# Altium footprint library PcbLib1.PcbLib: 16 footprints
Each footprint in its own frame and in the unit in brackets; x right, y up, seen from the top. Pads: shape width x height; smd on the part's side, far side on the other; paste and mask are expansions set on the pad; w line width, h text height; cw(c..) or ccw(c..) is an arc to the next point about the centre after c.
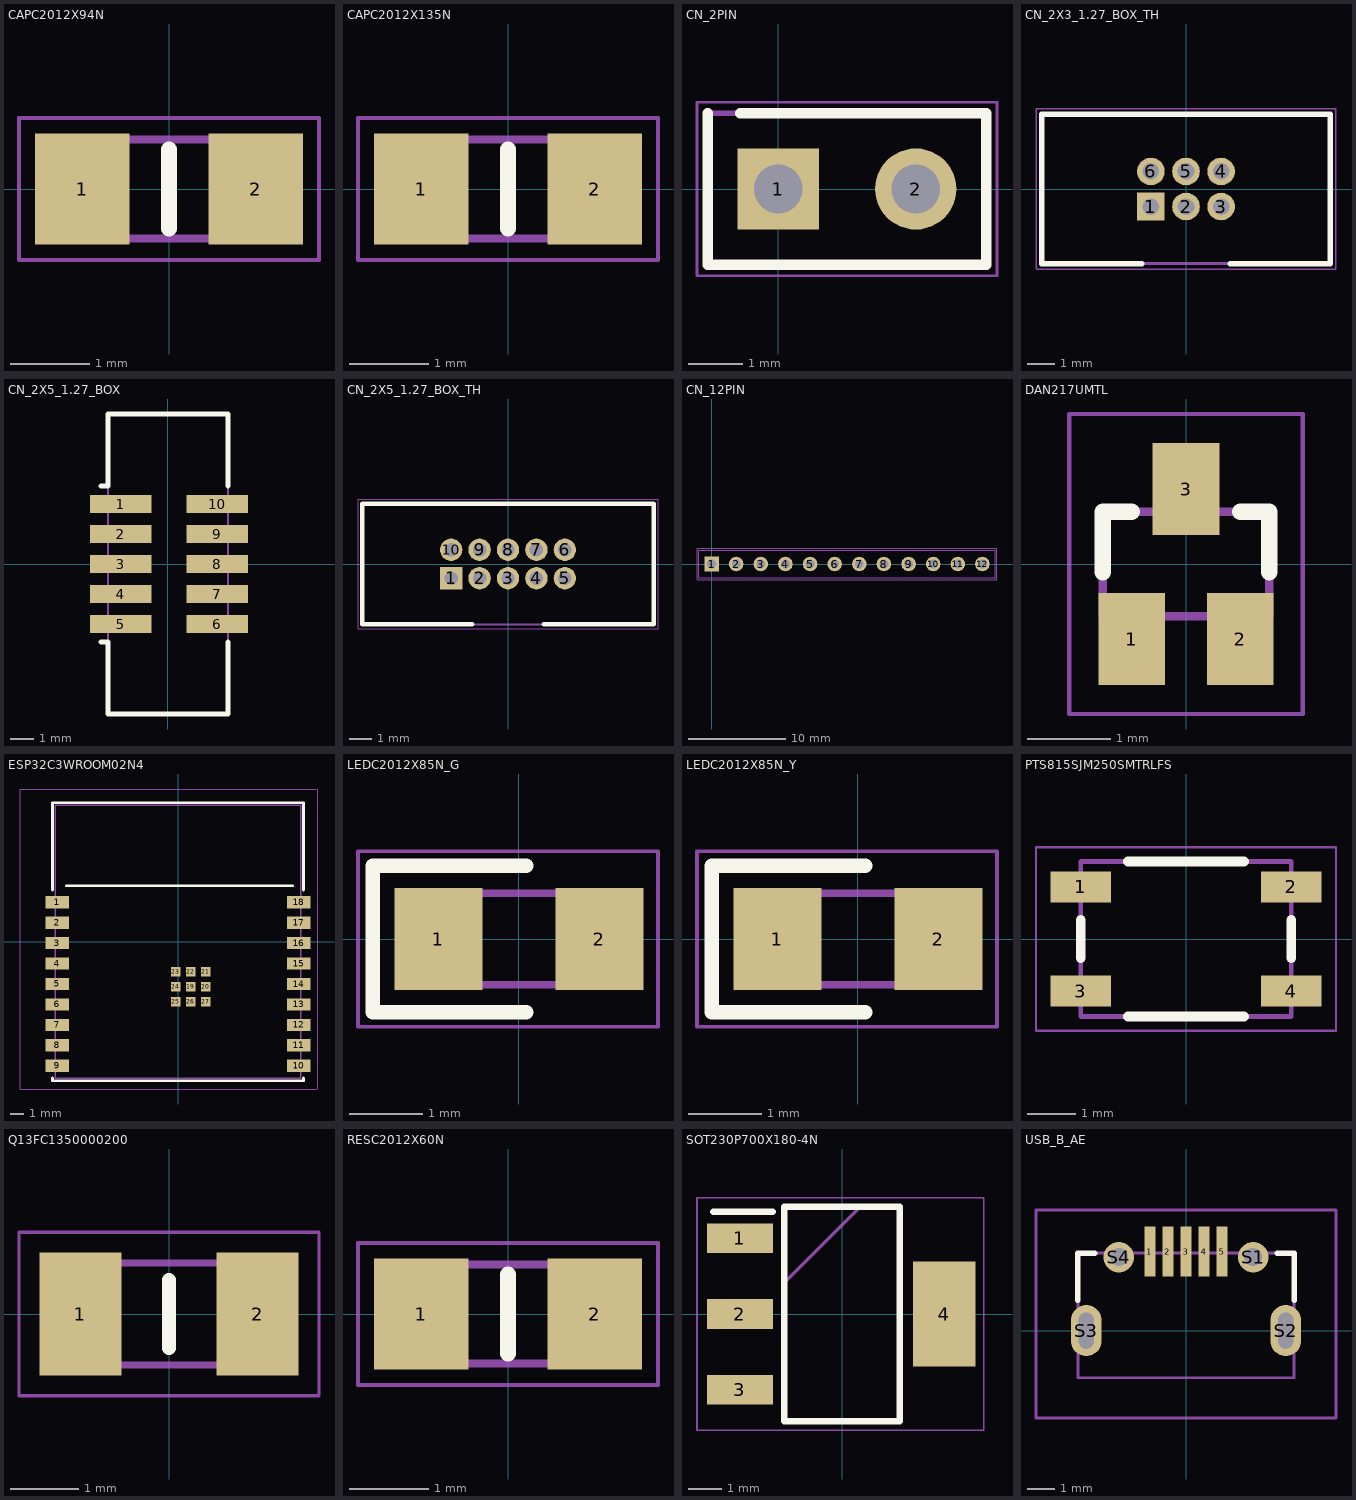
[diagram p0: the footprints below, top view; thin cyan lines are the x and y axes]

## CAPC2012X94N [mm] "Capacitor"
pads (2):
  rect 1.2x1.4 smd: 1(-1.1,0) 2(1.1,0)
Top Overlay:
  lines w0.2: 0,-0.5 0,0.5
Mechanical 13:
  lines w0.1: -1,-0.625 -1,0.625 1,0.625 1,-0.625 -1,-0.625
Mechanical 15:
  lines w0.05: -1.9,-0.9 1.9,-0.9 1.9,0.9 -1.9,0.9 -1.9,-0.9
3D body "08055A4R3CAT2A.stp": height 0.94, standoff 0, extent -1.005,-0.625 1.005,0.625

## CAPC2012X135N [mm] "Capacitor"
pads (2):
  rect 1.2x1.4 smd: 1(-1.1,0) 2(1.1,0)
Top Overlay:
  lines w0.2: 0,-0.5 0,0.5
Mechanical 13:
  lines w0.1: -1,-0.625 -1,0.625 1,0.625 1,-0.625 -1,-0.625
Mechanical 15:
  lines w0.05: -1.9,-0.9 1.9,-0.9 1.9,0.9 -1.9,0.9 -1.9,-0.9
3D body "885012107015.stp": height 1.35, standoff 0, extent -1,-0.625 1,0.625

## CN_2PIN [mm] "Connector"
pads (2):
  rect 1.5x1.5 hole 0.9: 1(0,0)
  round 1.5 hole 0.9: 2(2.54,0)
Top Overlay:
  lines w0.2: -1.3,1.4 -1.3,-1.4 3.84,-1.4 3.84,1.4 -0.7,1.4
Mechanical 13:
  lines w0.1: -1.3,-1.4 3.84,-1.4 3.84,1.4 -1.3,1.4 -1.3,-1.4
Mechanical 15:
  lines w0.05: -1.5,-1.6 -1.5,1.6 4.04,1.6 4.04,-1.6 -1.5,-1.6
3D body "pin_header_aw140-eg-g02d.SLDPRT": height 8.2, standoff -3, extent -1.17,-1.246 3.91,1.253

## CN_2X3_1.27_BOX_TH [mm] "Connector"
pads (6):
  rect 1x1 hole 0.6: 1(-1.27,-0.635)
  round 1 hole 0.6: 2(0,-0.635) 3(1.27,-0.635) 4(1.27,0.635) 5(0,0.635) 6(-1.27,0.635)
Top Overlay:
  lines w0.2: -1.6,-2.7 -5.23,-2.7 -5.23,-2.2 -5.23,2.7 5.23,2.7 5.23,-2.7 1.6,-2.7
Mechanical 13:
  lines w0.1: -5.23,-2.7 -5.23,2.7 5.23,2.7 5.23,-2.7 -5.23,-2.7
Mechanical 15:
  lines w0.05: -5.43,-2.9 5.43,-2.9 5.43,2.9 -5.43,2.9 -5.43,-2.9
3D body "IDC_Connector_SMD_2x3.step": height 4.9, standoff -0.2, extent -5.005,-2.9 5.005,2.9

## CN_2X5_1.27_BOX [mm] "Connector"
pads (10):
  rect 2.6x0.76 smd: 1(-2.005,2.54) 2(-2.005,1.27) 3(-2.005,0) 4(-2.005,-1.27) 5(-2.005,-2.54) 6(2.095,-2.54) 7(2.095,-1.27) 8(2.095,0) 9(2.095,1.27) 10(2.095,2.54)
Top Overlay:
  lines w0.2: -2.845,-3.302 -2.54,-3.302 -2.54,-6.35 2.54,-6.35 2.54,-3.302 ; -2.845,3.302 -2.54,3.302 -2.54,6.35 2.54,6.35 2.54,3.302
Mechanical 13:
  lines w0.1: -2.54,-6.35 -2.54,6.35 2.54,6.35 2.54,-6.35 -2.54,-6.35
3D body "IDC_Connector_SMD_2x5.step": height 5.1, standoff 0, extent -2.849,-6.275 2.951,6.275

## CN_2X5_1.27_BOX_TH [mm] "Connector"
pads (10):
  rect 1x1 hole 0.6: 1(-2.54,-0.635)
  round 1 hole 0.6: 2(-1.27,-0.635) 3(0,-0.635) 4(1.27,-0.635) 5(2.54,-0.635) 6(2.54,0.635) 7(1.27,0.635) 8(0,0.635) 9(-1.27,0.635) 10(-2.54,0.635)
Top Overlay:
  lines w0.2: -1.6,-2.7 -6.5,-2.7 -6.5,-2.2 -6.5,2.7 6.5,2.7 6.5,-2.7 1.6,-2.7
Mechanical 13:
  lines w0.1: -6.5,-2.7 -6.5,2.7 6.5,2.7 6.5,-2.7 -6.5,-2.7
Mechanical 15:
  lines w0.05: -6.7,-2.9 6.7,-2.9 6.7,2.9 -6.7,2.9 -6.7,-2.9
3D body "CONB127P-2R-10W_TH.STEP": height 5.4, standoff -2.1, extent -6.325,-2.65 6.325,2.55

## CN_12PIN [mm] "Connector"
pads (12):
  rect 1.5x1.5 hole 0.9: 1(0,0)
  round 1.5 hole 0.9: 2(2.54,0) 3(5.08,0) 4(7.62,0) 5(10.16,0) 6(12.7,0) 7(15.24,0) 8(17.78,0) 9(20.32,0) 10(22.86,0) 11(25.4,0) 12(27.94,0)
Mechanical 13:
  lines w0.1: -1.3,-1.4 -1.3,1.4 29.24,1.4 29.24,-1.4 -1.3,-1.4
Mechanical 15:
  lines w0.05: -1.5,-1.6 -1.5,1.6 29.44,1.6 29.44,-1.6 -1.5,-1.6
3D body "pin_header_aw140-eg-g12d.SLDPRT": height 2.59, standoff -8.61, extent -1.17,-1.253 29.31,1.246

## DAN217UMTL [mm]
pads (3):
  rect 0.8x1.1 smd: 1(-0.65,-0.9) 2(0.65,-0.9) 3(0,0.9)
Top Overlay:
  lines w0.2: -1,-0.1 -1,0.6 -1,0.625 -0.65,0.625 ; 0.65,0.625 1,0.625 1,-0.1
Mechanical 13:
  lines w0.1: -1,-0.625 -1,0.625 1,0.625 1,-0.625 -1,-0.625
Mechanical 15:
  lines w0.05: -1.4,-1.8 1.4,-1.8 1.4,1.8 -1.4,1.8 -1.4,-1.8
3D body "RB715UMTL.stp": height 1.1, standoff 0, extent -1,-1.17 1,1.17

## ESP32C3WROOM02N4 [mm] "Module"
pads (27):
  rect 1.7x0.9 smd: 1(-8.85,2.9) 2(-8.85,1.4) 3(-8.85,-0.1) 4(-8.85,-1.6) 5(-8.85,-3.1) 6(-8.85,-4.6) 7(-8.85,-6.1) 8(-8.85,-7.6) 9(-8.85,-9.1) 10(8.85,-9.1) 11(8.85,-7.6) 12(8.85,-6.1) 13(8.85,-4.6) 14(8.85,-3.1) 15(8.85,-1.6) 16(8.85,-0.1) 17(8.85,1.4) 18(8.85,2.9)
  rect 0.7x0.7 smd: 19(0.95,-3.3) 20(2.05,-3.3) 21(2.05,-2.2) 22(0.95,-2.2) 23(-0.15,-2.2) 24(-0.15,-3.3) 25(-0.15,-4.4) 26(0.95,-4.4) 27(2.05,-4.4)
Top Overlay:
  lines w0.2: -9.2,-10 -9.2,-10.2 9.2,-10.2 9.2,-10 ; -9.2,3.8 -9.2,10.2 9.2,10.2 9.2,3.8 ; -8.2,4.1 8.4,4.1
Mechanical 13:
  lines w0.1: -9,-10 9,-10 9,10 -9,10 -9,-10
Mechanical 15:
  lines w0.05: 10.14,-10.8 -11.56,-10.8 -11.56,11.2 10.14,11.2 ; 10.24,-10.8 10.24,11.2
3D body "ESP32-C3-WROOM-02-N4.stp": height 3.2, standoff 0, extent -9,-10 9,10

## LEDC2012X85N_G [mm] "LED Green"
pads (2):
  rect 1.2x1.4 smd: 1(-1.1,0) 2(1.1,0)
Top Overlay:
  lines w0.2: 0.1,-1 -2,-1 -2,1 0.1,1
Mechanical 13:
  lines w0.1: -1,0.208 -0.583,0.625 ; -1,-0.625 1,-0.625 1,0.625 -1,0.625 -1,-0.625
Mechanical 15:
  lines w0.05: -2.2,-1.2 1.9,-1.2 1.9,1.2 -2.2,1.2 -2.2,-1.2
3D body "User Library-LED-0805-G.sldprt": height 1.1, standoff 0, extent -1,-0.625 1,0.625

## LEDC2012X85N_Y [mm] "LED Yellow"
pads (2):
  rect 1.2x1.4 smd: 1(-1.1,0) 2(1.1,0)
Top Overlay:
  lines w0.2: 0.1,-1 -2,-1 -2,1 0.1,1
Mechanical 13:
  lines w0.1: -1,0.208 -0.583,0.625 ; -1,-0.625 1,-0.625 1,0.625 -1,0.625 -1,-0.625
Mechanical 15:
  lines w0.05: -2.2,-1.2 1.9,-1.2 1.9,1.2 -2.2,1.2 -2.2,-1.2
3D body "User Library-LED-0805-Y.sldprt": height 1.1, standoff 0, extent -1,-0.625 1,0.625

## PTS815SJM250SMTRLFS [mm] "Switch"
pads (4):
  rect 1.25x0.65 smd: 1(-2.175,1.075) 2(2.175,1.075) 3(-2.175,-1.075) 4(2.175,-1.075)
Top Overlay:
  lines w0.2: -2.175,-0.4 -2.175,0.4 ; -1.2,-1.6 1.2,-1.6 ; -1.2,1.6 1.2,1.6 ; 2.175,-0.4 2.175,0.4
Mechanical 13:
  lines w0.1: -2.175,-1.6 2.175,-1.6 2.175,1.6 -2.175,1.6 -2.175,-1.6
Mechanical 15:
  lines w0.05: -3.1,-1.9 3.1,-1.9 3.1,1.9 -3.1,1.9 -3.1,-1.9
3D body "PTS815_SJM_250_SMTR_LFS.stp": height 2.64, standoff 0.04, extent -2.3,-1.6 2.3,1.6

## Q13FC1350000200 [mm] "Crystal"
pads (2):
  rect 1.2x1.8 smd: 1(-1.3,0) 2(1.3,0)
Top Overlay:
  lines w0.2: 0,-0.5 0,0.5
Mechanical 13:
  lines w0.1: -1.6,-0.75 1.6,-0.75 1.6,0.75 -1.6,0.75 -1.6,-0.75
Mechanical 15:
  lines w0.05: -2.2,-1.2 2.2,-1.2 2.2,1.2 -2.2,1.2 -2.2,-1.2
3D body "FC-135_32.7680KA-AG5.stp": height 0.9, standoff 0, extent -1.6,-0.75 1.6,0.75

## RESC2012X60N [mm] "Resistor"
pads (2):
  rect 1.2x1.4 smd: 1(-1.1,0) 2(1.1,0)
Top Overlay:
  lines w0.2: 0,-0.5 0,0.5
Mechanical 13:
  lines w0.1: -1,-0.625 1,-0.625 1,0.625 -1,0.625 -1,-0.625
Mechanical 15:
  lines w0.05: -1.9,-0.9 -1.9,0.9 1.9,0.9 1.9,-0.9 -1.9,-0.9
3D body "RC0805FR-0710KL.stp": height 0.6, standoff 0, extent -1,-0.625 1,0.625

## SOT230P700X180-4N [mm] "LDO"
pads (4):
  rect 2x0.9 smd: 1(-3.1,2.3) 2(-3.1,0) 3(-3.1,-2.3)
  rect 1.9x3.2 smd: 4(3.1,0)
Top Overlay:
  lines w0.2: -3.9,3.1 -2.1,3.1 ; -1.75,-3.25 1.75,-3.25 1.75,3.25 -1.75,3.25 -1.75,-3.25
Mechanical 13:
  lines w0.1: -1.75,0.95 0.55,3.25 ; -1.75,-3.25 1.75,-3.25 1.75,3.25 -1.75,3.25 -1.75,-3.25
Mechanical 15:
  lines w0.05: -4.4,-3.525 4.3,-3.525 4.3,3.525 -4.4,3.525 -4.4,-3.525
3D body "AP7361-33ER-13.stp": height 1.8, standoff 0, extent -3.5,-3.25 3.5,3.25

## USB_B_AE [mm] "USB"
pads (9):
  rect 0.4x1.8 smd mask+0.125: 1(-1.3,2.85) 2(-0.65,2.85) 3(0,2.85) 4(0.65,2.85) 5(1.3,2.85)
  round 1.1 hole 0.65: S1(2.425,2.65) S4(-2.425,2.65)
  oval 1.1x1.85 hole 0.55 slot 1.3 at 90 deg: S2(3.6,0) S3(-3.6,0)
Top Overlay:
  lines w0.2: -3.9,1.1 -3.9,2.8 -3.3,2.8 ; 3.3,2.8 3.9,2.8 3.9,1.1
Mechanical 13:
  lines w0.1: -3.9,-1.7 3.9,-1.7 3.9,2.8 -3.9,2.8 -3.9,-1.7
Mechanical 15:
  lines w0.1: -5.415,-3.15 5.415,-3.15 5.415,4.35 -5.415,4.35 -5.415,-3.15
3D body "USB3075-30-A.stp": height 2.49, standoff -1.17, extent -3.9,-2.765 3.9,2.775